# EAGLE library part STELLARIS-LAUNCHPAD (library lieven)
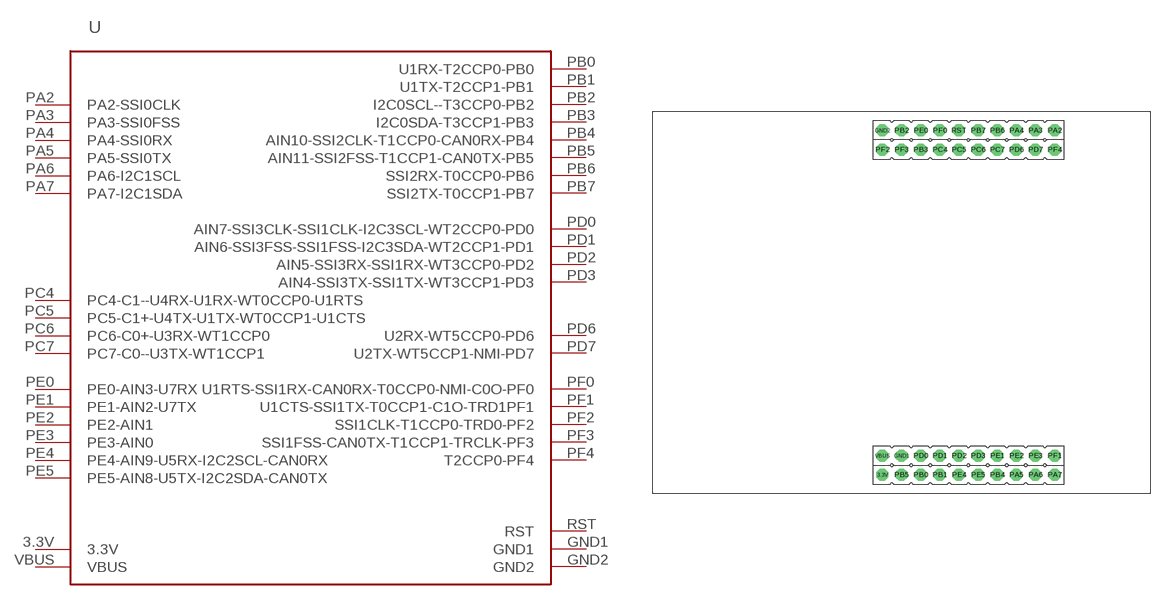
[diagram p8: symbol with the pads of LAUNCHPAD-XL; footprint LAUNCHPAD-XL]

Designator prefix -

## STELLARIS-LAUNCHPADSTELLARIS-LAUNCHPAD-XL  [LAUNCHPAD-XL]
3.3V  3.3V  pwr
GND1  GND1
GND2  GND2  pwr
PA2  PA2-SSI0CLK
PA3  PA3-SSI0FSS
PA4  PA4-SSI0RX
PA5  PA5-SSI0TX
PA6  PA6-I2C1SCL
PA7  PA7-I2C1SDA
PB0  U1RX-T2CCP0-PB0
PB1  U1TX-T2CCP1-PB1
PB2  I2C0SCL--T3CCP0-PB2
PB3  I2C0SDA-T3CCP1-PB3
PB4  AIN10-SSI2CLK-T1CCP0-CAN0RX-PB4
PB5  AIN11-SSI2FSS-T1CCP1-CAN0TX-PB5
PB6  SSI2RX-T0CCP0-PB6
PB7  SSI2TX-T0CCP1-PB7
PC4  PC4-C1--U4RX-U1RX-WT0CCP0-U1RTS
PC5  PC5-C1+-U4TX-U1TX-WT0CCP1-U1CTS
PC6  PC6-C0+-U3RX-WT1CCP0
PC7  PC7-C0--U3TX-WT1CCP1
PD0  AIN7-SSI3CLK-SSI1CLK-I2C3SCL-WT2CCP0-PD0
PD1  AIN6-SSI3FSS-SSI1FSS-I2C3SDA-WT2CCP1-PD1
PD2  AIN5-SSI3RX-SSI1RX-WT3CCP0-PD2
PD3  AIN4-SSI3TX-SSI1TX-WT3CCP1-PD3
PD6  U2RX-WT5CCP0-PD6
PD7  U2TX-WT5CCP1-NMI-PD7
PE0  PE0-AIN3-U7RX
PE1  PE1-AIN2-U7TX
PE2  PE2-AIN1
PE3  PE3-AIN0
PE4  PE4-AIN9-U5RX-I2C2SCL-CAN0RX
PE5  PE5-AIN8-U5TX-I2C2SDA-CAN0TX
PF0  U1RTS-SSI1RX-CAN0RX-T0CCP0-NMI-C0O-PF0
PF1  U1CTS-SSI1TX-T0CCP1-C1O-TRD1PF1
PF2  SSI1CLK-T1CCP0-TRD0-PF2
PF3  SSI1FSS-CAN0TX-T1CCP1-TRCLK-PF3
PF4  T2CCP0-PF4
RST  RST  pwr
VBUS  VBUS  pwr

## Footprint LAUNCHPAD-XL (pad centres in mm)
Stellaris LaunchPad layout.
drill 0.914 pad 1.6 octagon: 3.3V 30.48,2.54; GND1 33.02,5.08; GND2 30.48,48.26; PA2 53.34,48.26; PA3 50.8,48.26; PA4 48.26,48.26; PA5 48.26,2.54; PA6 50.8,2.54; PA7 53.34,2.54; PB0 35.56,2.54; PB1 38.1,2.54; PB2 33.02,48.26; PB3 35.56,45.72; PB4 45.72,2.54; PB5 33.02,2.54; PB6 45.72,48.26; PB7 43.18,48.26; PC4 38.1,45.72; PC5 40.64,45.72; PC6 43.18,45.72; PC7 45.72,45.72; PD0 35.56,5.08; PD1 38.1,5.08; PD2 40.64,5.08; PD3 43.18,5.08; PD6 48.26,45.72; PD7 50.8,45.72; PE0 35.56,48.26; PE1 45.72,5.08; PE2 48.26,5.08; PE3 50.8,5.08; PE4 40.64,2.54; PE5 43.18,2.54; PF0 38.1,48.26; PF1 53.34,5.08; PF2 30.48,45.72; PF3 33.02,45.72; PF4 53.34,45.72; RST 40.64,48.26; VBUS 30.48,5.08